# Altium integrated library Infineon_Power_MOSFET.IntLib: 1448 symbols (part 21 of 47)
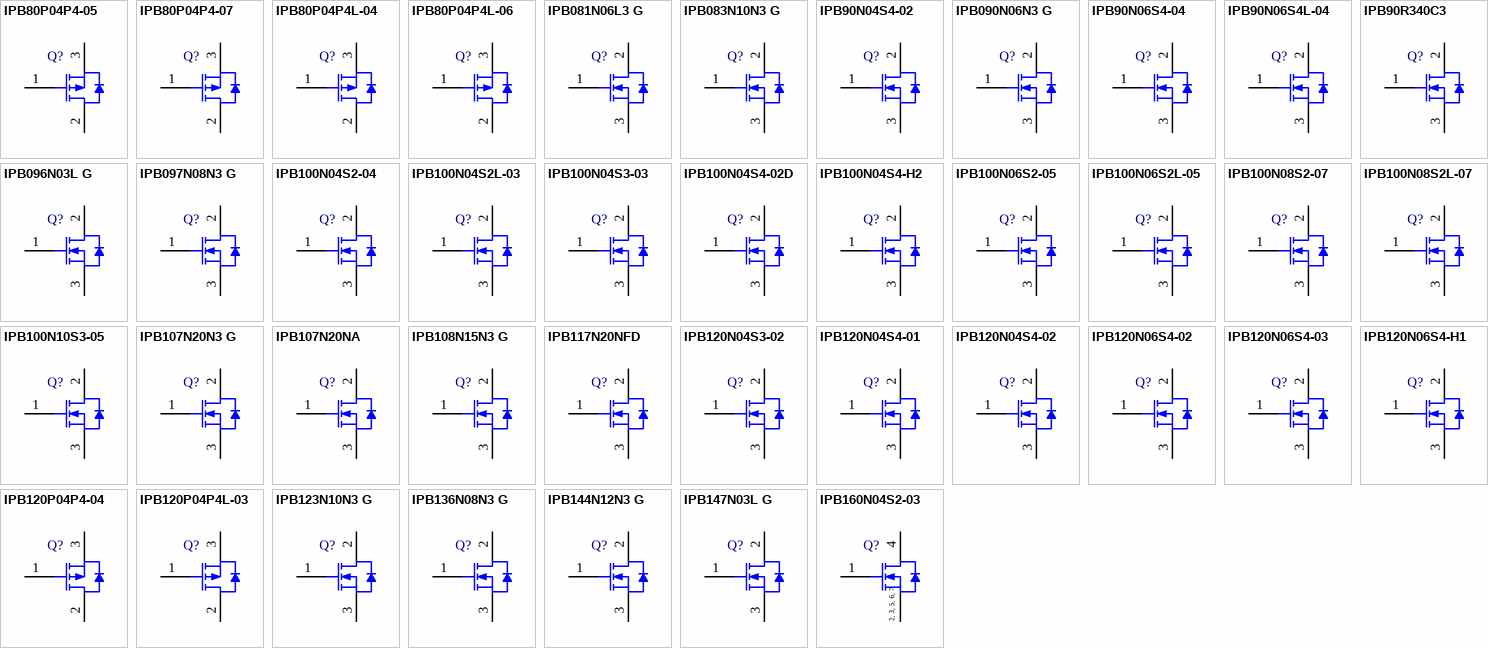
[diagram p57: symbols IPB80P04P4-05 to IPB160N04S2-03]

## IPB147N03L G
designator Q?
N-Channel OptiMOS 3 Power-Transistor, 30 V VDS, 20 A ID, -55 to 175 degC, PG-TO263-3-2, Reel, Green; Manufacturer: Infineon; PartNumber: IPB147N03L G; Green: TRUE; ID (max): 20 A; IDpuls (max): 140 A; Polarity: N; Ptot (max): 31 W; QG: 4.8 nC; RDS (on) (max): 14.7 mOhm; RDS (on) (max) (@4.5V): 21.7 mOhm; Rth: 4.9 K/W; RthJA (max): 62 K/W; VDS (max): 30 V; VGS(th) (max): 2.2 V; VGS(th) (min): 1 V; DatasheetVersion: Rev. 2.0; PackageVersion: Rev. 01, 08/2007; PackageReference: PG-TO263-3-2; PackageDescription: 3-Pin Plastic (Green) Transistor Single Outline Package, 10.1 x 8.98 mm Body, 2.54 mm Pitch; Supplier 1: Digi-Key; Supplier Part Number 1: IPB147N03L G-ND; Halogen-free: TRUE; Packing: Reel; RthJC (max): 4.9 K/W; Mounting Technology: Surface Mount; ComponentLink1Description: Manufacturer URL; ComponentLink1URL: http://www.infineon.com/; ComponentLink2Description: Datasheet; ComponentLink2URL: http://www.infineon.com/dgdl/IPP147N03L_rev2.pdf?folderId=db3a30431441fb5d01148c401f250e27&fileId=db3a30431441fb5d01148d08f1f30e9a; ComponentLink3Description: Package Specification; ComponentLink3URL: http://www.infineon.com/dgdl/SPB80P06P+G_Rev+1.6_.pdf?folderId=db3a304412b407950112b408e8c90004&fileId=db3a304412b407950112b42add964408
footprint INF-PG-TO263-3-2_A_N (DPAK, 3-Leads, Body 10.1x8.98mm, Pitch 2.54mm, IPC Medium Density)
footprint INF-PG-TO263-3-2_A_L (DPAK, 3-Leads, Body 10.1x8.98mm, Pitch 2.54mm, IPC High Density)
footprint INF-PG-TO263-3-2_A_M (DPAK, 3-Leads, Body 10.1x8.98mm, Pitch 2.54mm, IPC Low Density)
pins: 1 GATE, 2 DRAIN, 3 SOURCE

## IPB160N04S2-03
designator Q?
OptiMOS-T Power-Transistor, 40 V VDS, 160 A ID, PG-TO263-7-3, Reel, Green; Manufacturer: Infineon; PartNumber: IPB160N04S2-03; Green: TRUE; ID (max): 160 A; IDpuls (max): 640 A; Ptot (max): 300 W; QG: 123 nC; RDS (on) (max) (@10V): 2.9 mOhm; RthJC (max): 0.5 K/W; VDS (max): 40 V; VGS(th) (max): 4 V; VGS(th) (min): 2.1 V; DatasheetVersion: Rev. 1.0; PackageReference: PG-TO263-7-3; PackageDescription: 7-Pin Plastic (Green) Transistor Single Outline Package, 10 x 9.25 mm Body, 1.27 mm Pitch; Supplier 1: Mouser; Supplier Part Number 1: 726-IPB160N04S203; Supplier 2: Digi-Key; Supplier Part Number 2: IPB160N04S2-03-ND; Halogen-free: TRUE; Packing: Reel; Technology: OptiMOS; Mounting Technology: Surface Mount; ComponentLink1Description: Manufacturer URL; ComponentLink1URL: http://www.infineon.com/; ComponentLink2Description: Datasheet; ComponentLink2URL: http://www.infineon.com/dgdl/IPB160N04S2-03_green.pdf?folderId=db3a304412b407950112b408e8c90004&fileId=db3a304412b407950112b42b97434564&location=en.Products.Automotive_ICs.Automotive_MOSFETs.Single__N-Channel_40V_MOSFETs.DATASHEET.IPB160N04S2-03_green.pdf; ComponentLink3Description: Package Specification; ComponentLink3URL: http://www.infineon.com/cms/packages/SMD_-_Surface_Mounted_Devices/P-PG-TO263/P-TO263-07-02x_-3.html?__locale=en
footprint INF-PG-TO263-7-3_N (DPAK, 7-Leads, Body 10x9.25mm, Pitch 1.27mm, IPC Medium Density)
footprint INF-PG-TO263-7-3_L (DPAK, 7-Leads, Body 10x9.25mm, Pitch 1.27mm, IPC High Density)
footprint INF-PG-TO263-7-3_M (DPAK, 7-Leads, Body 10x9.25mm, Pitch 1.27mm, IPC Low Density)
pins: 1 GATE, 2 SOURCE, 3 SOURCE, 4 DRAIN, 5 SOURCE, 6 SOURCE, 7 SOURCE
text: 2, 3, 5, 6, 7

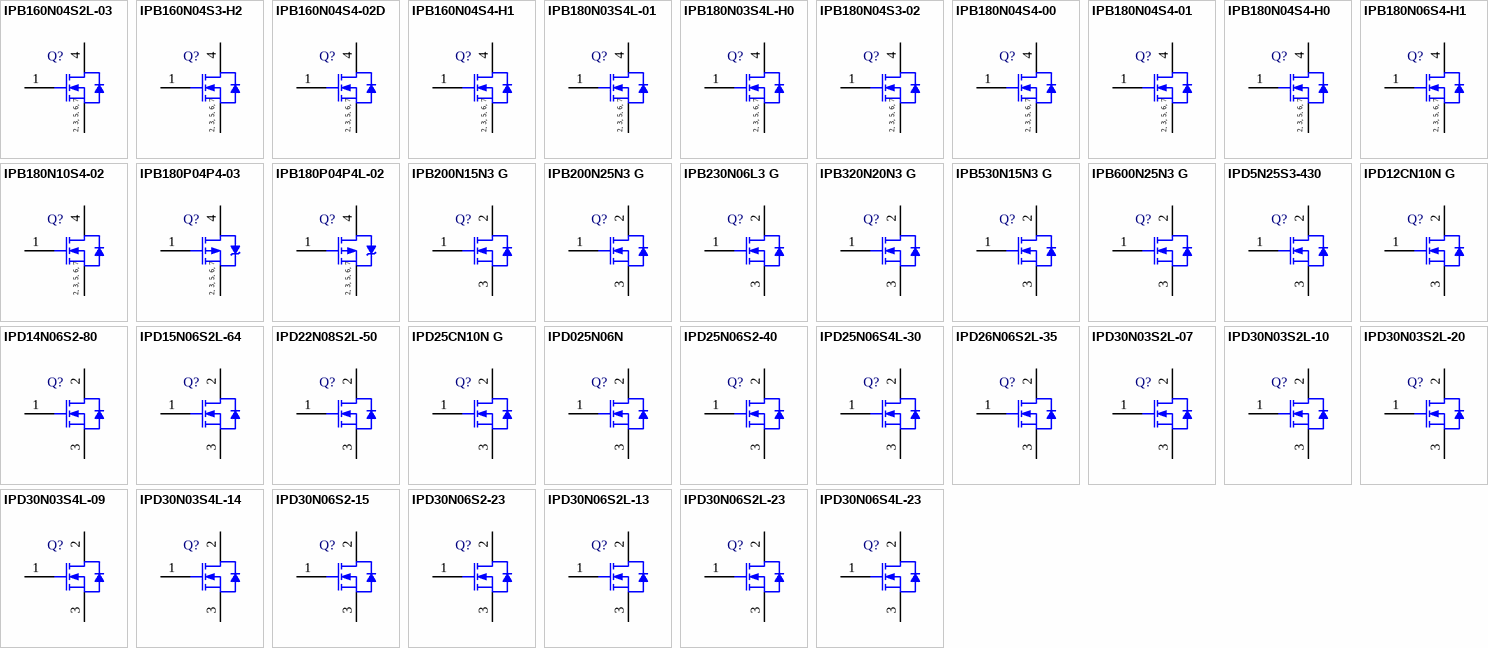
[diagram p16: symbols IPB160N04S2L-03 to IPD30N06S4L-23]

## IPB160N04S2L-03
designator Q?
OptiMOS-T Power-Transistor, 40 V VDS, 160 A ID, PG-TO263-7-3, Reel, Green; Manufacturer: Infineon; PartNumber: IPB160N04S2L-03; Green: TRUE; ID (max): 160 A; IDpuls (max): 640 A; Ptot (max): 300 W; QG: 230 nC; RDS (on) (max) (@10V): 2.7 mOhm; RDS (on) (max) (@4.5V): 3.7 mOhm; RthJC (max): 0.5 K/W; VDS (max): 40 V; VGS(th) (max): 2 V; VGS(th) (min): 1.2 V; DatasheetVersion: Rev. 1.0; PackageReference: PG-TO263-7-3; PackageDescription: 7-Pin Plastic (Green) Transistor Single Outline Package, 10 x 9.25 mm Body, 1.27 mm Pitch; Supplier 1: Mouser; Supplier Part Number 1: 726-IPB160N04S2L03; Supplier 2: Digi-Key; Supplier Part Number 2: IPB160N04S2L-03-ND; Halogen-free: TRUE; Packing: Reel; Technology: OptiMOS; Mounting Technology: Surface Mount; ComponentLink1Description: Manufacturer URL; ComponentLink1URL: http://www.infineon.com/; ComponentLink2Description: Datasheet; ComponentLink2URL: http://www.infineon.com/dgdl/IPB160N04S2L-03_green.pdf?folderId=db3a304412b407950112b408e8c90004&fileId=db3a304412b407950112b42b99f14568&location=en.Products.Automotive_ICs.Automotive_MOSFETs.Single__N-Channel_40V_MOSFETs.DATASHEET.IPB160N04S2L-03_green.pdf; ComponentLink3Description: Package Specification; ComponentLink3URL: http://www.infineon.com/cms/packages/SMD_-_Surface_Mounted_Devices/P-PG-TO263/P-TO263-07-02x_-3.html?__locale=en
footprint INF-PG-TO263-7-3_N (DPAK, 7-Leads, Body 10x9.25mm, Pitch 1.27mm, IPC Medium Density)
footprint INF-PG-TO263-7-3_L (DPAK, 7-Leads, Body 10x9.25mm, Pitch 1.27mm, IPC High Density)
footprint INF-PG-TO263-7-3_M (DPAK, 7-Leads, Body 10x9.25mm, Pitch 1.27mm, IPC Low Density)
pins: 1 GATE, 2 SOURCE, 3 SOURCE, 4 DRAIN, 5 SOURCE, 6 SOURCE, 7 SOURCE
text: 2, 3, 5, 6, 7

## IPB160N04S3-H2
designator Q?
OptiMOS-T Power-Transistor, 40 V VDS, 160 A ID, PG-TO263-7-3, Reel, Green; Manufacturer: Infineon; PartNumber: IPB160N04S3-H2; Green: TRUE; ID (max): 160 A; IDpuls (max): 640 A; Ptot (max): 214 W; QG: 110 nC; RDS (on) (max) (@10V): 2.1 mOhm; RthJC (max): 0.7 K/W; VDS (max): 40 V; VGS(th) (max): 4 V; VGS(th) (min): 2.1 V; DatasheetVersion: Rev. 1.0; PackageReference: PG-TO263-7-3; PackageDescription: 7-Pin Plastic (Green) Transistor Single Outline Package, 10 x 9.25 mm Body, 1.27 mm Pitch; Supplier 1: Mouser; Supplier Part Number 1: 726-IPB160N04S3H2; Supplier 2: Digi-Key; Supplier Part Number 2: IPB160N04S3-H2TR-ND; Supplier 3: Digi-Key; Supplier Part Number 3: IPB160N04S3-H2CT-ND; Supplier 4: Digi-Key; Supplier Part Number 4: IPB160N04S3-H2DKR-ND; Halogen-free: TRUE; Packing: Reel; Technology: OptiMOS-T; Mounting Technology: Surface Mount; ComponentLink1Description: Manufacturer URL; ComponentLink1URL: http://www.infineon.com/; ComponentLink2Description: Datasheet; ComponentLink2URL: http://www.infineon.com/dgdl/IPB160N04S3-H2_DS_1_1.pdf?folderId=db3a304412b407950112b42b75b74520&fileId=db3a304412b407950112b42b8da04548&location=en.Products.Automotive_ICs.Automotive_MOSFETs.Single__N-Channel_40V_MOSFETs.DATASHEET.IPB160N04S3-H2_DS_1_1.pdf; ComponentLink3Description: Package Specification; ComponentLink3URL: http://www.infineon.com/cms/packages/SMD_-_Surface_Mounted_Devices/P-PG-TO263/P-TO263-07-02x_-3.html?__locale=en
footprint INF-PG-TO263-7-3_N (DPAK, 7-Leads, Body 10x9.25mm, Pitch 1.27mm, IPC Medium Density)
footprint INF-PG-TO263-7-3_L (DPAK, 7-Leads, Body 10x9.25mm, Pitch 1.27mm, IPC High Density)
footprint INF-PG-TO263-7-3_M (DPAK, 7-Leads, Body 10x9.25mm, Pitch 1.27mm, IPC Low Density)
pins: 1 GATE, 2 SOURCE, 3 SOURCE, 4 DRAIN, 5 SOURCE, 6 SOURCE, 7 SOURCE
text: 2, 3, 5, 6, 7

## IPB160N04S4-02D
designator Q?
OptiMOS-T2 Power-Transistor, 40 V VDS, 160 A ID, PG-TO263-7-3, Reel, Green; Manufacturer: Infineon; PartNumber: IPB160N04S4-02D; Green: TRUE; ID (max): 160 A; IDpuls (max): 640 A; Ptot (max): 231 mW; QG: 70 nC; RDS (on) (max) (@10V): 1.9 mOhm; RthJC (max): 0.65 K/W; VDS (max): 40 V; VGS(th) (max): 4 V; VGS(th) (min): 2 V; DatasheetVersion: Rev. 1.0; PackageReference: PG-TO263-7-3; PackageDescription: 7-Pin Plastic (Green) Transistor Single Outline Package, 10 x 9.25 mm Body, 1.27 mm Pitch; Halogen-free: TRUE; Packing: Reel; Technology: OptiMOS-T2; Mounting Technology: Surface Mount; ComponentLink1Description: Manufacturer URL; ComponentLink1URL: http://www.infineon.com/; ComponentLink2Description: Datasheet; ComponentLink2URL: http://www.infineon.com/dgdl/IPB160N04S4-02D_DS_1_0.pdf?folderId=db3a304412b407950112b42b75b74520&fileId=db3a304333227b5e013326737da12f0f&location=en.Products.Automotive_ICs.Automotive_MOSFETs.Single__N-Channel_40V_MOSFETs.DATASHEET.IPB160N04S4-02D_DS_1_0.pdf; ComponentLink3Description: Package Specification; ComponentLink3URL: http://www.infineon.com/cms/packages/SMD_-_Surface_Mounted_Devices/P-PG-TO263/P-TO263-07-02x_-3.html?__locale=en
footprint INF-PG-TO263-7-3_N (DPAK, 7-Leads, Body 10x9.25mm, Pitch 1.27mm, IPC Medium Density)
footprint INF-PG-TO263-7-3_L (DPAK, 7-Leads, Body 10x9.25mm, Pitch 1.27mm, IPC High Density)
footprint INF-PG-TO263-7-3_M (DPAK, 7-Leads, Body 10x9.25mm, Pitch 1.27mm, IPC Low Density)
pins: 1 GATE, 2 SOURCE, 3 SOURCE, 4 DRAIN, 5 SOURCE, 6 SOURCE, 7 SOURCE
text: 2, 3, 5, 6, 7

## IPB160N04S4-H1
designator Q?
OptiMOS-T2 Power-Transistor, 40 V VDS, 160 A ID, PG-TO263-7-3, Reel, Green; Manufacturer: Infineon; PartNumber: IPB160N04S4-H1; Green: TRUE; ID (max): 160 A; IDpuls (max): 640 A; Ptot (max): 167 W; QG: 105 nC; RDS (on) (max) (@10V): 1.6 mOhm; RthJC (max): 0.9 K/W; VDS (max): 40 V; VGS(th) (max): 4 V; VGS(th) (min): 2 V; DatasheetVersion: Rev. 1.0; PackageReference: PG-TO263-7-3; PackageDescription: 7-Pin Plastic (Green) Transistor Single Outline Package, 10 x 9.25 mm Body, 1.27 mm Pitch; Supplier 1: Mouser; Supplier Part Number 1: 726-IPB160N04S4-H1; Halogen-free: TRUE; Packing: Reel; Technology: OptiMOS-T2; Mounting Technology: Surface Mount; ComponentLink1Description: Manufacturer URL; ComponentLink1URL: http://www.infineon.com/; ComponentLink2Description: Datasheet; ComponentLink2URL: http://www.infineon.com/dgdl/IPB160N04S4-H1_DS_10.pdf?folderId=db3a304412b407950112b42b75b74520&fileId=db3a304328c6bd5c01291c39839f5d47&location=en.Products.Automotive_ICs.Automotive_MOSFETs.Single__N-Channel_40V_MOSFETs.DATASHEET.IPB160N04S4-H1_DS_10.pdf; ComponentLink3Description: Package Specification; ComponentLink3URL: http://www.infineon.com/cms/packages/SMD_-_Surface_Mounted_Devices/P-PG-TO263/P-TO263-07-02x_-3.html?__locale=en
footprint INF-PG-TO263-7-3_N (DPAK, 7-Leads, Body 10x9.25mm, Pitch 1.27mm, IPC Medium Density)
footprint INF-PG-TO263-7-3_L (DPAK, 7-Leads, Body 10x9.25mm, Pitch 1.27mm, IPC High Density)
footprint INF-PG-TO263-7-3_M (DPAK, 7-Leads, Body 10x9.25mm, Pitch 1.27mm, IPC Low Density)
pins: 1 GATE, 2 SOURCE, 3 SOURCE, 4 DRAIN, 5 SOURCE, 6 SOURCE, 7 SOURCE
text: 2, 3, 5, 6, 7

## IPB180N03S4L-01
designator Q?
OptiMOS-T2 Power-Transistor, 30 V VDS, 180 A ID, PG-TO263-7-3, Reel, Green; Manufacturer: Infineon; PartNumber: IPB180N03S4L-01; Green: TRUE; ID (max): 180 A; IDpuls (max): 720 A; Ptot (max): 188 W; QG: 187 nC; RDS (on) (max) (@10V): 15 mOhm; RDS (on) (max) (@4.5V): 1.4 mOhm; RthJC (max): 0.8 K/W; VDS (max): 30 V; VGS(th) (max): 2.2 V; VGS(th) (min): 1 V; DatasheetVersion: Rev. 1.0; PackageReference: PG-TO263-7-3; PackageDescription: 7-Pin Plastic (Green) Transistor Single Outline Package, 10 x 9.25 mm Body, 1.27 mm Pitch; Supplier 1: Mouser; Supplier Part Number 1: 726-IPB180N03S4L-01; Supplier 2: Digi-Key; Supplier Part Number 2: IPB180N03S4L-01-ND; Halogen-free: TRUE; Packing: Reel; Technology: OptiMOS-T2; Mounting Technology: Surface Mount; ComponentLink1Description: Manufacturer URL; ComponentLink1URL: http://www.infineon.com/; ComponentLink2Description: Datasheet; ComponentLink2URL: http://www.infineon.com/dgdl/IPB180N03S4L-01_DS_1_0.pdf?folderId=db3a304412b407950112b426f7da3b27&fileId=db3a304324fc7f9a0125120e409b199f&location=en.Products.Automotive_ICs.Automotive_MOSFETs.Single__N-Channel_30V_MOSFETs.DATASHEET.IPB180N03S4L-01_DS_1_0.pdf; ComponentLink3Description: Package Specification; ComponentLink3URL: http://www.infineon.com/cms/packages/SMD_-_Surface_Mounted_Devices/P-PG-TO263/P-TO263-07-02x_-3.html?__locale=en
footprint INF-PG-TO263-7-3_N (DPAK, 7-Leads, Body 10x9.25mm, Pitch 1.27mm, IPC Medium Density)
footprint INF-PG-TO263-7-3_L (DPAK, 7-Leads, Body 10x9.25mm, Pitch 1.27mm, IPC High Density)
footprint INF-PG-TO263-7-3_M (DPAK, 7-Leads, Body 10x9.25mm, Pitch 1.27mm, IPC Low Density)
pins: 1 GATE, 2 SOURCE, 3 SOURCE, 4 DRAIN, 5 SOURCE, 6 SOURCE, 7 SOURCE
text: 2, 3, 5, 6, 7

## IPB180N03S4L-H0
designator Q?
OptiMOS-T2 Power-Transistor, 30 V VDS, 180 A ID, PG-TO263-7-3, Reel, Green; Manufacturer: Infineon; PartNumber: IPB180N03S4L-H0; Green: TRUE; ID (max): 180 A; IDpuls (max): 720 A; Ptot (max): 250 W; QG: 230 nC; RDS (on) (max) (@10V): 0.95 mOhm; RDS (on) (max) (@4.5V): 1.3 mOhm; RthJC (max): 0.6 K/W; VDS (max): 30 V; VGS(th) (max): 2.2 V; VGS(th) (min): 1 V; DatasheetVersion: Rev. 1.0; PackageReference: PG-TO263-7-3; PackageDescription: 7-Pin Plastic (Green) Transistor Single Outline Package, 10 x 9.25 mm Body, 1.27 mm Pitch; Supplier 1: Mouser; Supplier Part Number 1: 726-IPB180N03S4L-H0; Supplier 2: Digi-Key; Supplier Part Number 2: IPB180N03S4L-H0-ND; Halogen-free: TRUE; Packing: Reel; Technology: OptiMOS-T2; Mounting Technology: Surface Mount; ComponentLink1Description: Manufacturer URL; ComponentLink1URL: http://www.infineon.com/; ComponentLink2Description: Datasheet; ComponentLink2URL: http://www.infineon.com/dgdl/IPB180N03S4L-H0_DS_1_0.pdf?folderId=db3a304412b407950112b426f7da3b27&fileId=db3a304324fc7f9a01252090cadb4332&location=en.Products.Automotive_ICs.Automotive_MOSFETs.Single__N-Channel_30V_MOSFETs.DATASHEET.IPB180N03S4L-H0_DS_1_0.pdf; ComponentLink3Description: Package Specification; ComponentLink3URL: http://www.infineon.com/cms/packages/SMD_-_Surface_Mounted_Devices/P-PG-TO263/P-TO263-07-02x_-3.html?__locale=en
footprint INF-PG-TO263-7-3_N (DPAK, 7-Leads, Body 10x9.25mm, Pitch 1.27mm, IPC Medium Density)
footprint INF-PG-TO263-7-3_L (DPAK, 7-Leads, Body 10x9.25mm, Pitch 1.27mm, IPC High Density)
footprint INF-PG-TO263-7-3_M (DPAK, 7-Leads, Body 10x9.25mm, Pitch 1.27mm, IPC Low Density)
pins: 1 GATE, 2 SOURCE, 3 SOURCE, 4 DRAIN, 5 SOURCE, 6 SOURCE, 7 SOURCE
text: 2, 3, 5, 6, 7

## IPB180N04S3-02
designator Q?
OptiMOS-T Power-Transistor, 40 V VDS, 180 A ID, PG-TO263-7-3, Reel, Green; Manufacturer: Infineon; PartNumber: IPB180N04S3-02; Green: TRUE; ID (max): 180 A; IDpuls (max): 720 A; Ptot (max): 300 W; QG: 160 nC; RDS (on) (max) (@10V): 1.5 mOhm; RthJC (max): 0.5 K/W; VDS (max): 40 V; VGS(th) (max): 4 V; VGS(th) (min): 2.1 V; DatasheetVersion: Rev. 1.0; PackageReference: PG-TO263-7-3; PackageDescription: 7-Pin Plastic (Green) Transistor Single Outline Package, 10 x 9.25 mm Body, 1.27 mm Pitch; Supplier 1: Mouser; Supplier Part Number 1: 726-IPB180N04S302; Supplier 2: Digi-Key; Supplier Part Number 2: IPB180N04S3-02TR-ND; Supplier 3: Digi-Key; Supplier Part Number 3: IPB180N04S3-02CT-ND; Supplier 4: Digi-Key; Supplier Part Number 4: IPB180N04S3-02DKR-ND; Halogen-free: TRUE; Packing: Reel; Technology: OptiMOS-T; Mounting Technology: Surface Mount; ComponentLink1Description: Manufacturer URL; ComponentLink1URL: http://www.infineon.com/; ComponentLink2Description: Datasheet; ComponentLink2URL: http://www.infineon.com/dgdl/IPB180N04S3-02_DS_1_0.pdf?folderId=db3a304412b407950112b42b75b74520&fileId=db3a304412b407950112b42ba6cf45ab&location=en.Products.Automotive_ICs.Automotive_MOSFETs.Single__N-Channel_40V_MOSFETs.DATASHEET.IPB180N04S3-02_DS_1_0.pdf; ComponentLink3Description: Package Specification; ComponentLink3URL: http://www.infineon.com/cms/packages/SMD_-_Surface_Mounted_Devices/P-PG-TO263/P-TO263-07-02x_-3.html?__locale=en
footprint INF-PG-TO263-7-3_N (DPAK, 7-Leads, Body 10x9.25mm, Pitch 1.27mm, IPC Medium Density)
footprint INF-PG-TO263-7-3_L (DPAK, 7-Leads, Body 10x9.25mm, Pitch 1.27mm, IPC High Density)
footprint INF-PG-TO263-7-3_M (DPAK, 7-Leads, Body 10x9.25mm, Pitch 1.27mm, IPC Low Density)
pins: 1 GATE, 2 SOURCE, 3 SOURCE, 4 DRAIN, 5 SOURCE, 6 SOURCE, 7 SOURCE
text: 2, 3, 5, 6, 7

## IPB180N04S4-00
designator Q?
OptiMOS-T2 Power-Transistor, 40 V VDS, 180 A ID, PG-TO263-7-3, Reel, Green; Manufacturer: Infineon; PartNumber: IPB180N04S4-00; Green: TRUE; ID (max): 180 A; IDpuls (max): 720 A; Ptot (max): 300 W; QG: 220 nC; RDS (on) (max) (@10V): 0.98 mOhm; RthJC (max): 0.5 K/W; VDS (max): 40 V; VGS(th) (max): 4 V; VGS(th) (min): 2 V; DatasheetVersion: Rev. 1.0; PackageReference: PG-TO263-7-3; PackageDescription: 7-Pin Plastic (Green) Transistor Single Outline Package, 10 x 9.25 mm Body, 1.27 mm Pitch; Supplier 1: Mouser; Supplier Part Number 1: 726-IPB180N04S4-00; Supplier 2: Digi-Key; Supplier Part Number 2: IPB180N04S4-00-ND; Halogen-free: TRUE; Packing: Reel; Technology: OptiMOS-T2; Mounting Technology: Surface Mount; ComponentLink1Description: Manufacturer URL; ComponentLink1URL: http://www.infineon.com/; ComponentLink2Description: Datasheet; ComponentLink2URL: http://www.infineon.com/dgdl/IPB180N04S4-00_DS_1_0.pdf?folderId=db3a304412b407950112b42b75b74520&fileId=db3a304328c6bd5c01291c3debd55d57&location=en.Products.Automotive_ICs.Automotive_MOSFETs.Single__N-Channel_40V_MOSFETs.DATASHEET.IPB180N04S4-00_DS_1_0.pdf; ComponentLink3Description: Package Specification; ComponentLink3URL: http://www.infineon.com/cms/packages/SMD_-_Surface_Mounted_Devices/P-PG-TO263/P-TO263-07-02x_-3.html?__locale=en
footprint INF-PG-TO263-7-3_N (DPAK, 7-Leads, Body 10x9.25mm, Pitch 1.27mm, IPC Medium Density)
footprint INF-PG-TO263-7-3_L (DPAK, 7-Leads, Body 10x9.25mm, Pitch 1.27mm, IPC High Density)
footprint INF-PG-TO263-7-3_M (DPAK, 7-Leads, Body 10x9.25mm, Pitch 1.27mm, IPC Low Density)
pins: 1 GATE, 2 SOURCE, 3 SOURCE, 4 DRAIN, 5 SOURCE, 6 SOURCE, 7 SOURCE
text: 2, 3, 5, 6, 7

## IPB180N04S4-01
designator Q?
OptiMOS-T2 Power-Transistor, 40 V VDS, 180 A ID, PG-TO263-7-3, Reel, Green; Manufacturer: Infineon; PartNumber: IPB180N04S4-01; Green: TRUE; ID (max): 180 A; IDpuls (max): 720 A; Ptot (max): 188 W; QG: 135 nC; RDS (on) (max) (@10V): 1.3 mOhm; RthJC (max): 0.8 K/W; VDS (max): 40 V; VGS(th) (max): 4 V; VGS(th) (min): 2 V; DatasheetVersion: Rev. 1.0; PackageReference: PG-TO263-7-3; PackageDescription: 7-Pin Plastic (Green) Transistor Single Outline Package, 10 x 9.25 mm Body, 1.27 mm Pitch; Supplier 1: Mouser; Supplier Part Number 1: 726-IPB180N04S4-01; Supplier 2: Digi-Key; Supplier Part Number 2: IPB180N04S4-01-ND; Halogen-free: TRUE; Packing: Reel; Technology: OptiMOS-T2; Mounting Technology: Surface Mount; ComponentLink1Description: Manufacturer URL; ComponentLink1URL: http://www.infineon.com/; ComponentLink2Description: Datasheet; ComponentLink2URL: http://www.infineon.com/dgdl/IPB180N04S4-01_DS_1_0.pdf?folderId=db3a304412b407950112b42b75b74520&fileId=db3a304328c6bd5c01291c432c5d5d67&location=en.Products.Automotive_ICs.Automotive_MOSFETs.Single__N-Channel_40V_MOSFETs.DATASHEET.IPB180N04S4-01_DS_1_0.pdf; ComponentLink3Description: Package Specification; ComponentLink3URL: http://www.infineon.com/cms/packages/SMD_-_Surface_Mounted_Devices/P-PG-TO263/P-TO263-07-02x_-3.html?__locale=en
footprint INF-PG-TO263-7-3_N (DPAK, 7-Leads, Body 10x9.25mm, Pitch 1.27mm, IPC Medium Density)
footprint INF-PG-TO263-7-3_L (DPAK, 7-Leads, Body 10x9.25mm, Pitch 1.27mm, IPC High Density)
footprint INF-PG-TO263-7-3_M (DPAK, 7-Leads, Body 10x9.25mm, Pitch 1.27mm, IPC Low Density)
pins: 1 GATE, 2 SOURCE, 3 SOURCE, 4 DRAIN, 5 SOURCE, 6 SOURCE, 7 SOURCE
text: 2, 3, 5, 6, 7

## IPB180N04S4-H0
designator Q?
OptiMOS-T2 Power-Transistor, 40 V VDS, 180 A ID, PG-TO263-7-3, Reel, Green; Manufacturer: Infineon; PartNumber: IPB180N04S4-H0; Green: TRUE; ID (max): 180 A; IDpuls (max): 720 A; Ptot (max): 250 W; QG: 173 nC; RDS (on) (max) (@10V): 1.1 mOhm; RthJC (max): 0.6 K/W; VDS (max): 40 V; VGS(th) (max): 4 V; VGS(th) (min): 2 V; DatasheetVersion: Rev. 1.0; PackageReference: PG-TO263-7-3; PackageDescription: 7-Pin Plastic (Green) Transistor Single Outline Package, 10 x 9.25 mm Body, 1.27 mm Pitch; Supplier 1: Mouser; Supplier Part Number 1: 726-IPB180N04S4-H0; Supplier 2: Digi-Key; Supplier Part Number 2: IPB180N04S4-H0-ND; Halogen-free: TRUE; Packing: Reel; Technology: OptiMOS-T2; Mounting Technology: Surface Mount; ComponentLink1Description: Manufacturer URL; ComponentLink1URL: http://www.infineon.com/; ComponentLink2Description: Datasheet; ComponentLink2URL: http://www.infineon.com/dgdl/IPB180N04S4-H0_DS_1_0.pdf?folderId=db3a304412b407950112b42b75b74520&fileId=db3a304328c6bd5c01291c4975375d77&location=en.Products.Automotive_ICs.Automotive_MOSFETs.Single__N-Channel_40V_MOSFETs.DATASHEET.IPB180N04S4-H0_DS_1_0.pdf; ComponentLink3Description: Package Specification; ComponentLink3URL: http://www.infineon.com/cms/packages/SMD_-_Surface_Mounted_Devices/P-PG-TO263/P-TO263-07-02x_-3.html?__locale=en
footprint INF-PG-TO263-7-3_N (DPAK, 7-Leads, Body 10x9.25mm, Pitch 1.27mm, IPC Medium Density)
footprint INF-PG-TO263-7-3_L (DPAK, 7-Leads, Body 10x9.25mm, Pitch 1.27mm, IPC High Density)
footprint INF-PG-TO263-7-3_M (DPAK, 7-Leads, Body 10x9.25mm, Pitch 1.27mm, IPC Low Density)
pins: 1 GATE, 2 SOURCE, 3 SOURCE, 4 DRAIN, 5 SOURCE, 6 SOURCE, 7 SOURCE
text: 2, 3, 5, 6, 7

## IPB180N06S4-H1
designator Q?
OptiMOS-T2 Power-Transistor, 60 V VDS, 180 A ID, PG-TO263-7-3, Reel, Green; Manufacturer: Infineon; PartNumber: IPB180N06S4-H1; Green: TRUE; ID (max): 180 A; IDpuls (max): 720 A; Ptot (max): 250 W; QG: 208 nC; RDS (on) (max) (@10V): 1.7 mOhm; RthJC (max): 0.6 K/W; VDS (max): 60 V; VGS(th) (max): 4 V; VGS(th) (min): 2 V; DatasheetVersion: Rev. 1.0; PackageReference: PG-TO263-7-3; PackageDescription: 7-Pin Plastic (Green) Transistor Single Outline Package, 10 x 9.25 mm Body, 1.27 mm Pitch; Supplier 1: Mouser; Supplier Part Number 1: 726-IPB180N06S4-H1; Supplier 2: Digi-Key; Supplier Part Number 2: IPB180N06S4-H1-ND; Halogen-free: TRUE; Packing: Reel; Technology: OptiMOS-T2; Mounting Technology: Surface Mount; ComponentLink1Description: Manufacturer URL; ComponentLink1URL: http://www.infineon.com/; ComponentLink2Description: Datasheet; ComponentLink2URL: http://www.infineon.com/dgdl/IPB180N06S4-H1_DS_10.pdf?folderId=db3a30431ff9881501203cca7672178b&fileId=db3a30431ff9881501203ccc9314178e&location=en.Products.Automotive_ICs.Automotive_MOSFETs.Single__N-Channel_60V_MOSFETs.DATASHEET.IPB180N06S4-H1_DS_10.pdf; ComponentLink3Description: Package Specification; ComponentLink3URL: http://www.infineon.com/cms/packages/SMD_-_Surface_Mounted_Devices/P-PG-TO263/P-TO263-07-02x_-3.html?__locale=en
footprint INF-PG-TO263-7-3_N (DPAK, 7-Leads, Body 10x9.25mm, Pitch 1.27mm, IPC Medium Density)
footprint INF-PG-TO263-7-3_L (DPAK, 7-Leads, Body 10x9.25mm, Pitch 1.27mm, IPC High Density)
footprint INF-PG-TO263-7-3_M (DPAK, 7-Leads, Body 10x9.25mm, Pitch 1.27mm, IPC Low Density)
pins: 1 GATE, 2 SOURCE, 3 SOURCE, 4 DRAIN, 5 SOURCE, 6 SOURCE, 7 SOURCE
text: 2, 3, 5, 6, 7

## IPB180N10S4-02
designator Q?
OptiMOS-T2 Power-Transistor, 100 V VDS, 180 A ID, PG-TO263-7-3, Reel, Green; Manufacturer: Infineon; PartNumber: IPB180N10S4-02; Green: TRUE; ID (max): 180 A; IDpuls (max): 720 A; Ptot (max): 300 W; QG: 156 nC; RDS (on) (max) (@10V): 2.5 mOhm; RthJC (max): 0.5 K/W; VDS (max): 100 V; VGS(th) (max): 3.5 V; VGS(th) (min): 2 V; DatasheetVersion: Rev. 1.0; PackageReference: PG-TO263-7-3; PackageDescription: 7-Pin Plastic (Green) Transistor Single Outline Package, 10 x 9.25 mm Body, 1.27 mm Pitch; Supplier 1: Mouser; Supplier Part Number 1: N/A; Halogen-free: TRUE; Packing: Reel; Technology: OptiMOS-T2; Mounting Technology: Surface Mount; ComponentLink1Description: Manufacturer URL; ComponentLink1URL: http://www.infineon.com/; ComponentLink2Description: Datasheet; ComponentLink2URL: http://www.infineon.com/dgdl/IPB180N10S4-02_DS_1_0.pdf?folderId=db3a304412b407950112b42a6a0a4339&fileId=db3a30433d1d0bbe013d2129cf8a2f88&location=en.Products.Automotive_ICs.Automotive_MOSFETs.Single__N-Channel_100V_MOSFETs.DATASHEET.IPB180N10S4-02_DS_1_0.pdf; ComponentLink3Description: Package Specification; ComponentLink3URL: http://www.infineon.com/cms/packages/SMD_-_Surface_Mounted_Devices/P-PG-TO263/P-TO263-07-02x_-3.html?__locale=en
footprint INF-PG-TO263-7-3_N (DPAK, 7-Leads, Body 10x9.25mm, Pitch 1.27mm, IPC Medium Density)
footprint INF-PG-TO263-7-3_L (DPAK, 7-Leads, Body 10x9.25mm, Pitch 1.27mm, IPC High Density)
footprint INF-PG-TO263-7-3_M (DPAK, 7-Leads, Body 10x9.25mm, Pitch 1.27mm, IPC Low Density)
pins: 1 GATE, 2 SOURCE, 3 SOURCE, 4 DRAIN, 5 SOURCE, 6 SOURCE, 7 SOURCE
text: 2, 3, 5, 6, 7

## IPB180P04P4-03
designator Q?
OptiMOS-P2 Power-Transistor, -40 V VDS, -180 A ID, PG-TO263-7-3, Reel, Green; Manufacturer: Infineon; PartNumber: IPB180P04P4-03; Green: TRUE; ID (max): -180 A; IDpuls (max): -720 A; Ptot (max): 150 W; QG: 190 nC; RDS (on) (max) (@10V): 2.8 mOhm; RthJC (max): 1 K/W; VDS (max): -40 V; VGS(th) (max): -4 V; VGS(th) (min): -2 V; DatasheetVersion: Rev. 1.0; PackageReference: PG-TO263-7-3; PackageDescription: 7-Pin Plastic (Green) Transistor Single Outline Package, 10 x 9.25 mm Body, 1.27 mm Pitch; Supplier 1: Mouser; Supplier Part Number 1: 726-IPB180P04P4-03; Halogen-free: TRUE; Packing: Reel; Technology: OptiMOS-P2; Mounting Technology: Surface Mount; ComponentLink1Description: Manufacturer URL; ComponentLink1URL: http://www.infineon.com/; ComponentLink2Description: Datasheet; ComponentLink2URL: http://www.infineon.com/dgdl/IPB180P04P4-03_DS_10.pdf?folderId=db3a304412b407950112b42b75b74520&fileId=db3a30432f69f146012f78472a2a2e4e&location=en.Products.Automotive_ICs.Automotive_MOSFETs.Single__P-Channel_40V_MOSFETs.DATASHEET.IPB180P04P4-03_DS_10.pdf; ComponentLink3Description: Package Specification; ComponentLink3URL: http://www.infineon.com/cms/packages/SMD_-_Surface_Mounted_Devices/P-PG-TO263/P-TO263-07-02x_-3.html?__locale=en
footprint INF-PG-TO263-7-3_N (DPAK, 7-Leads, Body 10x9.25mm, Pitch 1.27mm, IPC Medium Density)
footprint INF-PG-TO263-7-3_L (DPAK, 7-Leads, Body 10x9.25mm, Pitch 1.27mm, IPC High Density)
footprint INF-PG-TO263-7-3_M (DPAK, 7-Leads, Body 10x9.25mm, Pitch 1.27mm, IPC Low Density)
pins: 1 GATE, 2 SOURCE, 3 SOURCE, 4 DRAIN, 5 SOURCE, 6 SOURCE, 7 SOURCE
text: 2, 3, 5, 6, 7

## IPB180P04P4L-02
designator Q?
OptiMOS-P2 Power-Transistor, -40 V VDS, -180 A ID, PG-TO263-7-3, Reel, Green; Manufacturer: Infineon; PartNumber: IPB180P04P4L-02; Green: TRUE; ID (max): -180 A; IDpuls (max): -720 A; Ptot (max): 150 W; QG: 220 nC; RDS (on) (max) (@10V): 2.4 mOhm; RDS (on) (max) (@4.5V): 3.9 mOhm; RthJC (max): 1 K/W; VDS (max): -40 V; VGS(th) (max): -2.2 V; VGS(th) (min): -1.2 V; DatasheetVersion: Rev. 1.3; PackageReference: PG-TO263-7-3; PackageDescription: 7-Pin Plastic (Green) Transistor Single Outline Package, 10 x 9.25 mm Body, 1.27 mm Pitch; Supplier 1: Mouser; Supplier Part Number 1: 726-IPB180P04P4L-02; Halogen-free: TRUE; Packing: Reel; Technology: OptiMOS-P2; Mounting Technology: Surface Mount; ComponentLink1Description: Manufacturer URL; ComponentLink1URL: http://www.infineon.com/; ComponentLink2Description: Datasheet; ComponentLink2URL: http://www.infineon.com/dgdl/IPB180P04P4L-02_DS_13.pdf?folderId=db3a304412b407950112b42b75b74520&fileId=db3a30432f69f146012f7845736e2e49&location=en.Products.Automotive_ICs.Automotive_MOSFETs.Single__P-Channel_40V_MOSFETs.DATASHEET.IPB180P04P4L-02_DS_13.pdf; ComponentLink3Description: Package Specification; ComponentLink3URL: http://www.infineon.com/cms/packages/SMD_-_Surface_Mounted_Devices/P-PG-TO263/P-TO263-07-02x_-3.html?__locale=en
footprint INF-PG-TO263-7-3_N (DPAK, 7-Leads, Body 10x9.25mm, Pitch 1.27mm, IPC Medium Density)
footprint INF-PG-TO263-7-3_L (DPAK, 7-Leads, Body 10x9.25mm, Pitch 1.27mm, IPC High Density)
footprint INF-PG-TO263-7-3_M (DPAK, 7-Leads, Body 10x9.25mm, Pitch 1.27mm, IPC Low Density)
pins: 1 GATE, 2 SOURCE, 3 SOURCE, 4 DRAIN, 5 SOURCE, 6 SOURCE, 7 SOURCE
text: 2, 3, 5, 6, 7

## IPB200N15N3 G
designator Q?
N-Channel OptiMOS 3 Power-Transistor, 150 V VDS, 50 A ID, -55 to 175 degC, PG-TO263-3-1, Reel, Green; Manufacturer: Infineon; PartNumber: IPB200N15N3 G; Green: TRUE; ID (max): 50 A; IDpuls (max): 200 A; Polarity: N; Ptot (max): 150 W; QG: 23 nC; RDS (on) (max): 20 mOhm; Rth: 1 K/W; RthJA (max): 75 K/W; VDS (max): 150 V; VGS(th) (max): 4 V; VGS(th) (min): 2 V; DatasheetVersion: Rev. 2.05; PackageVersion: Jan-10; PackageReference: PG-TO263-3-1; PackageDescription: 3-Pin Plastic (Green) Transistor Single Outline Package, 10 x 9.25 mm Body, 2.54 mm Pitch; Supplier 1: Mouser; Supplier Part Number 1: 726-IPB200N15N3G; Supplier 2: Digi-Key; Supplier Part Number 2: IPB200N15N3 GTR-ND; Supplier 3: Digi-Key; Supplier Part Number 3: IPB200N15N3 GCT-ND; Supplier 4: Digi-Key; Supplier Part Number 4: IPB200N15N3 GDKR-ND; Halogen-free: TRUE; Packing: Reel; RthJC (max): 1 K/W; Mounting Technology: Surface Mount; ComponentLink1Description: Manufacturer URL; ComponentLink1URL: http://www.infineon.com/; ComponentLink2Description: Datasheet; ComponentLink2URL: http://www.infineon.com/dgdl/IPD200N15N3_Rev25.pdf?folderId=db3a304313b8b5a60113cee7c66a02d6&fileId=db3a304319c6f18c0119cd1cc23279be; ComponentLink3Description: Package Specification; ComponentLink3URL: http://www.infineon.com/dgdl/TLE42744_DS_11.pdf?folderId=db3a304318f3fe290118f5a433570040&fileId=db3a304327b897500128012ccafe37d2&sId=db3a30443d67b5ca013d83f7c0ea327b
footprint INF-PG-TO263-3-1_N (DPAK, 3-Leads, Body 10x9.25mm, Pitch 2.54mm, IPC Medium Density)
footprint INF-PG-TO263-3-1_L (DPAK, 3-Leads, Body 10x9.25mm, Pitch 2.54mm, IPC High Density)
footprint INF-PG-TO263-3-1_M (DPAK, 3-Leads, Body 10x9.25mm, Pitch 2.54mm, IPC Low Density)
pins: 1 GATE, 2 DRAIN, 3 SOURCE

## IPB200N25N3 G
designator Q?
N-Channel OptiMOS 3 Power-Transistor, 250 V VDS, 64 A ID, -55 to 175 degC, PG-TO-263-3-2, Reel, Green; Manufacturer: Infineon; PartNumber: IPB200N25N3 G; Green: TRUE; ID (max): 64 A; IDpuls (max): 256 A; Polarity: N; Ptot (max): 300 W; QG: 64 nC; RDS (on) (max): 20 mOhm; Rth: 0.5 K/W; RthJA (max): 62 K/W; VDS (max): 250 V; VGS(th) (max): 4 V; VGS(th) (min): 2 V; DatasheetVersion: Rev. 2.4; PackageVersion: Rev. 01, 08/2007; PackageReference: PG-TO-263-3-2; PackageDescription: 3-Pin Plastic (Green) Transistor Single Outline Package, 10.06 x 8.98 mm Body, 2.54 mm Pitch; Supplier 1: Mouser; Supplier Part Number 1: 726-IPB200N25N3GXT; Supplier 2: Newark; Supplier Part Number 2: 79X1433; Supplier 3: Farnell; Supplier Part Number 3: 2432726; Supplier 4: Digi-Key; Supplier Part Number 4: IPB200N25N3 GTR-ND; Supplier 5: Digi-Key; Supplier Part Number 5: IPB200N25N3 GCT-ND; Supplier 6: Digi-Key; Supplier Part Number 6: IPB200N25N3 GDKR-ND; Halogen-free: TRUE; Packing: Reel; RthJC (max): 0.5 K/W; Mounting Technology: Surface Mount; ComponentLink1Description: Manufacturer URL; ComponentLink1URL: http://www.infineon.com/; ComponentLink2Description: Datasheet; ComponentLink2URL: http://www.infineon.com/dgdl/IPP_B_I_200N25N3+G+Rev2.4.pdf?folderId=db3a3043163797a6011637d4bae7003b&fileId=db3a3043243b5f17012496b87e9f1971; ComponentLink3Description: Package Specification; ComponentLink3URL: http://www.infineon.com/dgdl/IPB026N06N_Rev2.2.pdf?folderId=db3a304313b8b5a60113cee8763b02d7&fileId=db3a3043372d5cc8013754c7b2a74f7c
footprint INF-PG-TO-263-3-2_A_N (DPAK, 3-Leads, Body 10.06x8.98mm, Pitch 2.54mm, IPC Medium Density)
footprint INF-PG-TO-263-3-2_A_L (DPAK, 3-Leads, Body 10.06x8.98mm, Pitch 2.54mm, IPC High Density)
footprint INF-PG-TO-263-3-2_A_M (DPAK, 3-Leads, Body 10.06x8.98mm, Pitch 2.54mm, IPC Low Density)
pins: 1 GATE, 2 DRAIN, 3 SOURCE

## IPB230N06L3 G
designator Q?
OptiMOS 3 Power-Transistor, 60 V VDS, PG-TO-263-3-2, Reel, Green; Manufacturer: Infineon; PartNumber: IPB230N06L3 G; Green: TRUE; Polarity: N; RDS (on) (max): 23 mOhm; VDS (max): 60 V; DatasheetVersion: Rev. 2.2; PackageVersion: Rev. 01, 08/2007; PackageReference: PG-TO-263-3-2; PackageDescription: 3-Pin Plastic (Green) Transistor Single Outline Package, 10.06 x 8.98 mm Body, 2.54 mm Pitch; Supplier 1: Mouser; Supplier Part Number 1: 726-IPB230N06L3G; Supplier 2: Digi-Key; Supplier Part Number 2: IPB230N06L3 GTR-ND; Supplier 3: Digi-Key; Supplier Part Number 3: IPB230N06L3 GCT-ND; Supplier 4: Digi-Key; Supplier Part Number 4: IPB230N06L3 GDKR-ND; Halogen-free: TRUE; Mounting Technology: Surface Mount; ComponentLink1Description: Manufacturer URL; ComponentLink1URL: http://www.infineon.com/; ComponentLink2Description: Datasheet; ComponentLink2URL: http://www.infineon.com/dgdl/IPP_B230N06L3_Rev2.2_.pdf?folderId=db3a30431441fb5d01148ca9f1be0e77&fileId=db3a30431ddc9372011e2aab4a564d14; ComponentLink3Description: Package Specification; ComponentLink3URL: http://www.infineon.com/dgdl/IPB026N06N_Rev2.2.pdf?folderId=db3a304313b8b5a60113cee8763b02d7&fileId=db3a3043372d5cc8013754c7b2a74f7c
footprint INF-PG-TO-263-3-2_A_N (DPAK, 3-Leads, Body 10.06x8.98mm, Pitch 2.54mm, IPC Medium Density)
footprint INF-PG-TO-263-3-2_A_L (DPAK, 3-Leads, Body 10.06x8.98mm, Pitch 2.54mm, IPC High Density)
footprint INF-PG-TO-263-3-2_A_M (DPAK, 3-Leads, Body 10.06x8.98mm, Pitch 2.54mm, IPC Low Density)
pins: 1 GATE, 2 DRAIN, 3 SOURCE

## IPB320N20N3 G
designator Q?
N-Channel OptiMOS 3 Power-Transistor, 200 V VDS, 34 A ID, -55 to 175 degC, PG-TO-263-3-2, Reel, Green; Manufacturer: Infineon; PartNumber: IPB320N20N3 G; Green: TRUE; ID (max): 34 A; IDpuls (max): 136 A; Polarity: N; Ptot (max): 136 W; QG: 22 nC; RDS (on) (max): 32 mOhm; Rth: 1.1 K/W; RthJA (max): 62 K/W; VDS (max): 200 V; VGS(th) (max): 4 V; VGS(th) (min): 2 V; DatasheetVersion: Rev. 2.3; PackageVersion: Rev. 01, 08/2007; PackageReference: PG-TO-263-3-2; PackageDescription: 3-Pin Plastic (Green) Transistor Single Outline Package, 10.06 x 8.98 mm Body, 2.54 mm Pitch; Supplier 1: Mouser; Supplier Part Number 1: 726-IPB320N20N3GXT; Supplier 2: Newark; Supplier Part Number 2: 47W3467; Supplier 3: Farnell; Supplier Part Number 3: 2212854; Supplier 4: Digi-Key; Supplier Part Number 4: IPB320N20N3 GTR-ND; Supplier 5: Digi-Key; Supplier Part Number 5: IPB320N20N3 GCT-ND; Supplier 6: Digi-Key; Supplier Part Number 6: IPB320N20N3 GDKR-ND; Halogen-free: TRUE; Packing: Reel; RthJC (max): 1.1 K/W; Mounting Technology: Surface Mount; ComponentLink1Description: Manufacturer URL; ComponentLink1URL: http://www.infineon.com/; ComponentLink2Description: Datasheet; ComponentLink2URL: http://www.infineon.com/dgdl/IPP_B_I_320N20N3+G+Rev2.3.pdf?folderId=db3a3043163797a6011637d4bae7003b&fileId=db3a3043243b5f170124967064ba184a; ComponentLink3Description: Package Specification; ComponentLink3URL: http://www.infineon.com/dgdl/IPB026N06N_Rev2.2.pdf?folderId=db3a304313b8b5a60113cee8763b02d7&fileId=db3a3043372d5cc8013754c7b2a74f7c
footprint INF-PG-TO-263-3-2_A_N (DPAK, 3-Leads, Body 10.06x8.98mm, Pitch 2.54mm, IPC Medium Density)
footprint INF-PG-TO-263-3-2_A_L (DPAK, 3-Leads, Body 10.06x8.98mm, Pitch 2.54mm, IPC High Density)
footprint INF-PG-TO-263-3-2_A_M (DPAK, 3-Leads, Body 10.06x8.98mm, Pitch 2.54mm, IPC Low Density)
pins: 1 GATE, 2 DRAIN, 3 SOURCE

## IPB530N15N3 G
designator Q?
N-Channel OptiMOS 3 Power-Transistor, 150 V VDS, 21 A ID, -55 to 175 degC, PG-TO-263-3-2, Reel, Green; Manufacturer: Infineon; PartNumber: IPB530N15N3 G; Green: TRUE; ID (max): 21 A; IDpuls (max): 84 A; Polarity: N; Ptot (max): 68 W; QG: 8.7 nC; RDS (on) (max): 53 mOhm; Rth: 2.2 K/W; RthJA (max): 62 K/W; VDS (max): 150 V; VGS(th) (max): 4 V; VGS(th) (min): 2 V; DatasheetVersion: Rev. 2.5; PackageVersion: Rev. 01, 08/2007; PackageReference: PG-TO-263-3-2; PackageDescription: 3-Pin Plastic (Green) Transistor Single Outline Package, 10.06 x 8.98 mm Body, 2.54 mm Pitch; Supplier 1: Mouser; Supplier Part Number 1: 726-IPB530N15N3G; Supplier 2: Digi-Key; Supplier Part Number 2: IPB530N15N3 GTR-ND; Supplier 3: Digi-Key; Supplier Part Number 3: IPB530N15N3 GCT-ND; Supplier 4: Digi-Key; Supplier Part Number 4: IPB530N15N3 GDKR-ND; Halogen-free: TRUE; Packing: Reel; RthJC (max): 2.2 K/W; Mounting Technology: Surface Mount; ComponentLink1Description: Manufacturer URL; ComponentLink1URL: http://www.infineon.com/; ComponentLink2Description: Datasheet; ComponentLink2URL: http://www.infineon.com/dgdl/IPD530N15N3_Rev2.5.pdf?folderId=db3a304326623792012669f6bee2224b&fileId=db3a30432662379201266a1f6dd2227c; ComponentLink3Description: Package Specification; ComponentLink3URL: http://www.infineon.com/dgdl/IPB026N06N_Rev2.2.pdf?folderId=db3a304313b8b5a60113cee8763b02d7&fileId=db3a3043372d5cc8013754c7b2a74f7c
footprint INF-PG-TO-263-3-2_A_N (DPAK, 3-Leads, Body 10.06x8.98mm, Pitch 2.54mm, IPC Medium Density)
footprint INF-PG-TO-263-3-2_A_L (DPAK, 3-Leads, Body 10.06x8.98mm, Pitch 2.54mm, IPC High Density)
footprint INF-PG-TO-263-3-2_A_M (DPAK, 3-Leads, Body 10.06x8.98mm, Pitch 2.54mm, IPC Low Density)
pins: 1 GATE, 2 DRAIN, 3 SOURCE

## IPB600N25N3 G
designator Q?
N-Channel OptiMOS 3 Power-Transistor, 250 V VDS, 25 A ID, -55 to 175 degC, PG-TO-263-3-2, Reel, Green; Manufacturer: Infineon; PartNumber: IPB600N25N3 G; Green: TRUE; ID (max): 25 A; IDpuls (max): 100 A; Polarity: N; Ptot (max): 136 W; QG: 22 nC; RDS (on) (max): 60 mOhm; Rth: 1.1 K/W; RthJA (max): 62 K/W; VDS (max): 250 V; VGS(th) (max): 4 V; VGS(th) (min): 2 V; DatasheetVersion: Rev. 2.3; PackageVersion: Rev. 01, 08/2007; PackageReference: PG-TO-263-3-2; PackageDescription: 3-Pin Plastic (Green) Transistor Single Outline Package, 10.06 x 8.98 mm Body, 2.54 mm Pitch; Supplier 1: Mouser; Supplier Part Number 1: 726-IPB600N25N3GXT; Supplier 2: Digi-Key; Supplier Part Number 2: IPB600N25N3 GTR-ND; Supplier 3: Digi-Key; Supplier Part Number 3: IPB600N25N3 GCT-ND; Supplier 4: Digi-Key; Supplier Part Number 4: IPB600N25N3 GDKR-ND; Halogen-free: TRUE; Packing: Reel; RthJC (max): 1.1 K/W; Mounting Technology: Surface Mount; ComponentLink1Description: Manufacturer URL; ComponentLink1URL: http://www.infineon.com/; ComponentLink2Description: Datasheet; ComponentLink2URL: http://www.infineon.com/dgdl/IPP_B_600N25N3+G+Rev2.3.pdf?folderId=db3a3043163797a6011637d4bae7003b&fileId=db3a3043243b5f17012496c9548d199c; ComponentLink3Description: Package Specification; ComponentLink3URL: http://www.infineon.com/dgdl/IPB026N06N_Rev2.2.pdf?folderId=db3a304313b8b5a60113cee8763b02d7&fileId=db3a3043372d5cc8013754c7b2a74f7c
footprint INF-PG-TO-263-3-2_A_N (DPAK, 3-Leads, Body 10.06x8.98mm, Pitch 2.54mm, IPC Medium Density)
footprint INF-PG-TO-263-3-2_A_L (DPAK, 3-Leads, Body 10.06x8.98mm, Pitch 2.54mm, IPC High Density)
footprint INF-PG-TO-263-3-2_A_M (DPAK, 3-Leads, Body 10.06x8.98mm, Pitch 2.54mm, IPC Low Density)
pins: 1 GATE, 2 DRAIN, 3 SOURCE

## IPD5N25S3-430
designator Q?
OptiMOS-T Power-Transistor, 250 V VDS, 5 A ID, PG-TO252-3-313, Green; Manufacturer: Infineon; PartNumber: IPD5N25S3-430; Green: FALSE; ID (max): 5 A; IDpuls (max): 20 A; Ptot (max): 41 W; QG: 4.7 nC; RDS (on) (max) (@10V): 430 mOhm; RthJC (max): 3.7 K/W; VDS (max): 250 V; VGS(th) (max): 4 V; VGS(th) (min): 2 V; DatasheetVersion: Rev. 1.0; PackageVersion: Oct-10; PackageReference: PG-TO252-3-313; PackageDescription: 3-Pin Plastic (Green) Transistor Single Outline Package, 6.5 x 6.12 mm Body, 2.28 mm Pitch; Supplier 1: Mouser; Supplier Part Number 1: 726-IPD5N25S3-430; Halogen-free: FALSE; Technology: OptiMOS-T; Mounting Technology: Surface Mount; ComponentLink1Description: Manufacturer URL; ComponentLink1URL: http://www.infineon.com/; ComponentLink2Description: Datasheet; ComponentLink2URL: http://www.infineon.com/dgdl/IPD5N25S3-430_DS_10.pdf?folderId=db3a30433b92f0e8013b9377b6270147&fileId=db3a30433b92f0e8013b9379d03b0148&location=en.Products.Automotive_ICs.Automotive_MOSFETs.Single__N-Channel_250V_MOSFETs.DATASHEET.IPD5N25S3-430_DS_10.pdf; ComponentLink3Description: Package Specification; ComponentLink3URL: http://www.infineon.com/dgdl/PG-TO252-3-313-Package_Overview.pdf?folderId=db3a30432b57a660012b81890ade72d2&fileId=db3a30432b57a660012b8193af2872eb
footprint INF-PG-TO252-3-313_N (DPAK, 3-Leads, Body 6.5x6.12mm, Pitch 2.28mm, IPC Medium Density)
footprint INF-PG-TO252-3-313_L (DPAK, 3-Leads, Body 6.5x6.12mm, Pitch 2.28mm, IPC High Density)
footprint INF-PG-TO252-3-313_M (DPAK, 3-Leads, Body 6.5x6.12mm, Pitch 2.28mm, IPC Low Density)
pins: 1 GATE, 2 DRAIN, 3 SOURCE

## IPD12CN10N G
designator Q?
N-Channel OptiMOS 2 Power-Transistor, 100 V VDS, 67 A ID, -55 to 175 degC, PG-TO252-3-11, Reel, Green; Manufacturer: Infineon; PartNumber: IPD12CN10N G; Green: TRUE; ID (max): 67 A; IDpuls (max): 268 A; Polarity: N; Ptot (max): 100 W; QG: 49 nC; RDS (on) (max): 12.4 mOhm; Rth: 1.2 K/W; RthJA (max): 62 K/W; VDS (max): 100 V; VGS(th) (max): 4 V; VGS(th) (min): 2 V; DatasheetVersion: Rev. 1.07; PackageVersion: Rev. 02, 03/2007; PackageReference: PG-TO252-3-11; PackageDescription: 3-Pin Plastic (Green) Transistor Single Outline Package, 6.57 x 6.1 mm Body, 2.29 mm Pitch; Supplier 1: Mouser; Supplier Part Number 1: 726-IPD12CN10NG; Supplier 2: Digi-Key; Supplier Part Number 2: IPD12CN10N G-ND; Packing: Reel; RthJC (max): 1.2 K/W; Mounting Technology: Surface Mount; ComponentLink1Description: Manufacturer URL; ComponentLink1URL: http://www.infineon.com/; ComponentLink2Description: Datasheet; ComponentLink2URL: http://www.infineon.com/dgdl/IPP12CN10N_Rev17.pdf?folderId=db3a304412b407950112b408e8c90004&fileId=db3a304412b407950112b42c236e467c; ComponentLink3Description: Package Specification; ComponentLink3URL: http://www.infineon.com/dgdl/IPD160N04L_rev1.0.pdf?folderId=db3a3043163797a6011643468e7505a4&fileId=db3a3043163797a60116436401cf05cf
footprint INF-PG-TO252-3-11_A_N (DPAK, 3-Leads, Body 6.57x6.1mm, Pitch 2.29mm, IPC Medium Density)
footprint INF-PG-TO252-3-11_A_L (DPAK, 3-Leads, Body 6.57x6.1mm, Pitch 2.29mm, IPC High Density)
footprint INF-PG-TO252-3-11_A_M (DPAK, 3-Leads, Body 6.57x6.1mm, Pitch 2.29mm, IPC Low Density)
pins: 1 GATE, 2 DRAIN, 3 SOURCE

## IPD14N06S2-80
designator Q?
OptiMOS Power-Transistor, 55 V VDS, 17 A ID, PG-TO252-3-11, Reel, Green; Manufacturer: Infineon; PartNumber: IPD14N06S2-80; Green: TRUE; ID (max): 17 A; IDpuls (max): 68 A; Ptot (max): 47 W; QG: 8 nC; RDS (on) (max) (@10V): 80 mOhm; RthJC (max): 3.2 K/W; VDS (max): 55 V; VGS(th) (max): 4 V; VGS(th) (min): 2.1 V; DatasheetVersion: Rev. 1.0; PackageVersion: Dec-06; PackageReference: PG-TO252-3-11; PackageDescription: 3-Pin Plastic (Green) Transistor Single Outline Package, 6.5 x 6.12 mm Body, 2.28 mm Pitch; Supplier 1: Mouser; Supplier Part Number 1: 726-IPD14N06S2-80; Supplier 2: Digi-Key; Supplier Part Number 2: IPD14N06S2-80-ND; Halogen-free: TRUE; Packing: Reel; Technology: OptiMOS; Mounting Technology: Surface Mount; ComponentLink1Description: Manufacturer URL; ComponentLink1URL: http://www.infineon.com/; ComponentLink2Description: Datasheet; ComponentLink2URL: http://www.infineon.com/dgdl/IPD14N06S2-80_green.pdf?folderId=db3a304412b407950112b4322c6d574b&fileId=db3a304412b407950112b43349c95af6&location=en.Products.Automotive_ICs.Automotive_MOSFETs.Single__N-Channel_55V_MOSFETs.DATASHEET.IPD14N06S2-80_green.pdf; ComponentLink3Description: Package Specification; ComponentLink3URL: http://www.infineon.com/dgdl/BTS142_DS_13.pdf?folderId=db3a3043163797a6011667aa084c0e01&fileId=db3a3043163797a6011667ac98be0e02&location=en.Products.Automotive_ICs.Smart_High-_and_Low-Side_Switches.HITFET___TEMPFET__-_Smart_Low-Side_Switches.DATASHEET.BTS142_DS_13.pdf
footprint INF-PG-TO252-3-11_N (DPAK, 3-Leads, Body 6.5x6.12mm, Pitch 2.28mm, IPC Medium Density)
footprint INF-PG-TO252-3-11_L (DPAK, 3-Leads, Body 6.5x6.12mm, Pitch 2.28mm, IPC High Density)
footprint INF-PG-TO252-3-11_M (DPAK, 3-Leads, Body 6.5x6.12mm, Pitch 2.28mm, IPC Low Density)
pins: 1 GATE, 2 DRAIN, 3 SOURCE

## IPD15N06S2L-64
designator Q?
OptiMOS Power-Transistor, 55 V VDS, 19 A ID, PG-TO252-3-11, Reel, Green; Manufacturer: Infineon; PartNumber: IPD15N06S2L-64; Green: TRUE; ID (max): 19 A; IDpuls (max): 76 A; Ptot (max): 47 W; QG: 11 nC; RDS (on) (max) (@10V): 64 mOhm; RDS (on) (max) (@4.5V): 85.0 mOhm; RthJC (max): 3.2 K/W; VDS (max): 55 V; VGS(th) (max): 2 V; VGS(th) (min): 1.2 V; DatasheetVersion: Rev. 1.0; PackageVersion: Dec-06; PackageReference: PG-TO252-3-11; PackageDescription: 3-Pin Plastic (Green) Transistor Single Outline Package, 6.5 x 6.12 mm Body, 2.28 mm Pitch; Supplier 1: Mouser; Supplier Part Number 1: 726-IPD15N06S2L-64; Supplier 2: Digi-Key; Supplier Part Number 2: IPD15N06S2L-64-ND; Halogen-free: TRUE; Packing: Reel; Technology: OptiMOS; Mounting Technology: Surface Mount; ComponentLink1Description: Manufacturer URL; ComponentLink1URL: http://www.infineon.com/; ComponentLink2Description: Datasheet; ComponentLink2URL: http://www.infineon.com/dgdl/IPD15N06S2L-64_green.pdf?folderId=db3a304412b407950112b4322c6d574b&fileId=db3a304412b407950112b4334ab35afe&location=en.Products.Automotive_ICs.Automotive_MOSFETs.Single__N-Channel_55V_MOSFETs.DATASHEET.IPD15N06S2L-64_green.pdf; ComponentLink3Description: Package Specification; ComponentLink3URL: http://www.infineon.com/dgdl/BTS142_DS_13.pdf?folderId=db3a3043163797a6011667aa084c0e01&fileId=db3a3043163797a6011667ac98be0e02&location=en.Products.Automotive_ICs.Smart_High-_and_Low-Side_Switches.HITFET___TEMPFET__-_Smart_Low-Side_Switches.DATASHEET.BTS142_DS_13.pdf
footprint INF-PG-TO252-3-11_N (DPAK, 3-Leads, Body 6.5x6.12mm, Pitch 2.28mm, IPC Medium Density)
footprint INF-PG-TO252-3-11_L (DPAK, 3-Leads, Body 6.5x6.12mm, Pitch 2.28mm, IPC High Density)
footprint INF-PG-TO252-3-11_M (DPAK, 3-Leads, Body 6.5x6.12mm, Pitch 2.28mm, IPC Low Density)
pins: 1 GATE, 2 DRAIN, 3 SOURCE

## IPD22N08S2L-50
designator Q?
OptiMOS Power-Transistor, 75 V VDS, 25 A ID, PG-TO252-3-11, Reel, Green; Manufacturer: Infineon; PartNumber: IPD22N08S2L-50; Green: TRUE; ID (max): 25 A; IDpuls (max): 108 A; Ptot (max): 75 W; QG: 21 nC; RDS (on) (max) (@10V): 50 mOhm; RthJC (max): 2 K/W; VDS (max): 75 V; VGS(th) (max): 2 V; VGS(th) (min): 1.2 V; DatasheetVersion: Rev. 1.0; PackageVersion: Dec-06; PackageReference: PG-TO252-3-11; PackageDescription: 3-Pin Plastic (Green) Transistor Single Outline Package, 6.5 x 6.12 mm Body, 2.28 mm Pitch; Supplier 1: Mouser; Supplier Part Number 1: 726-IPD22N08S2L-50; Supplier 2: Digi-Key; Supplier Part Number 2: IPD22N08S2L-50-ND; Halogen-free: TRUE; Packing: Reel; Technology: OptiMOS; Mounting Technology: Surface Mount; ComponentLink1Description: Manufacturer URL; ComponentLink1URL: http://www.infineon.com/; ComponentLink2Description: Datasheet; ComponentLink2URL: http://www.infineon.com/dgdl/IPD22N08S2L-50_green.pdf?folderId=db3a304412b407950112b426dbff3ada&fileId=db3a304412b407950112b426ee5f3b08&location=en.Products.Automotive_ICs.Automotive_MOSFETs.Single__N-Channel_75V_MOSFETs.DATASHEET.IPD22N08S2L-50_green.pdf; ComponentLink3Description: Package Specification; ComponentLink3URL: http://www.infineon.com/dgdl/BTS142_DS_13.pdf?folderId=db3a3043163797a6011667aa084c0e01&fileId=db3a3043163797a6011667ac98be0e02&location=en.Products.Automotive_ICs.Smart_High-_and_Low-Side_Switches.HITFET___TEMPFET__-_Smart_Low-Side_Switches.DATASHEET.BTS142_DS_13.pdf
footprint INF-PG-TO252-3-11_N (DPAK, 3-Leads, Body 6.5x6.12mm, Pitch 2.28mm, IPC Medium Density)
footprint INF-PG-TO252-3-11_L (DPAK, 3-Leads, Body 6.5x6.12mm, Pitch 2.28mm, IPC High Density)
footprint INF-PG-TO252-3-11_M (DPAK, 3-Leads, Body 6.5x6.12mm, Pitch 2.28mm, IPC Low Density)
pins: 1 GATE, 2 DRAIN, 3 SOURCE

## IPD25CN10N G
designator Q?
N-Channel OptiMOS 2 Power-Transistor, 100 V VDS, 35 A ID, -55 to 175 degC, PG-TO252-3-11, Reel, Green; Manufacturer: Infineon; PartNumber: IPD25CN10N G; Green: TRUE; ID (max): 35 A; IDpuls (max): 140 A; Polarity: N; Ptot (max): 71 W; QG: 23 nC; RDS (on) (max): 25 mOhm; Rth: 2.1 K/W; RthJA (max): 62 K/W; VDS (max): 100 V; VGS(th) (max): 4 V; VGS(th) (min): 2 V; DatasheetVersion: Rev. 1.08; PackageVersion: Rev. 02, 03/2007; PackageReference: PG-TO252-3-11; PackageDescription: 3-Pin Plastic (Green) Transistor Single Outline Package, 6.57 x 6.1 mm Body, 2.29 mm Pitch; Supplier 1: Mouser; Supplier Part Number 1: 726-IPD25CN10NG; Supplier 2: Newark; Supplier Part Number 2: 47W3470; Supplier 3: Farnell; Supplier Part Number 3: 2212856; Supplier 4: Digi-Key; Supplier Part Number 4: IPD25CN10N GTR-ND; Supplier 5: Digi-Key; Supplier Part Number 5: IPD25CN10N GCT-ND; Supplier 6: Digi-Key; Supplier Part Number 6: IPD25CN10N GDKR-ND; Packing: Reel; RthJC (max): 2.1 K/W; Mounting Technology: Surface Mount; ComponentLink1Description: Manufacturer URL; ComponentLink1URL: http://www.infineon.com/; ComponentLink2Description: Datasheet; ComponentLink2URL: http://www.infineon.com/dgdl/IPP26CN10N_Rev18.pdf?folderId=db3a304412b407950112b408e8c90004&fileId=db3a304412b407950112b42b420244aa; ComponentLink3Description: Package Specification; ComponentLink3URL: http://www.infineon.com/dgdl/IPD160N04L_rev1.0.pdf?folderId=db3a3043163797a6011643468e7505a4&fileId=db3a3043163797a60116436401cf05cf
footprint INF-PG-TO252-3-11_A_N (DPAK, 3-Leads, Body 6.57x6.1mm, Pitch 2.29mm, IPC Medium Density)
footprint INF-PG-TO252-3-11_A_L (DPAK, 3-Leads, Body 6.57x6.1mm, Pitch 2.29mm, IPC High Density)
footprint INF-PG-TO252-3-11_A_M (DPAK, 3-Leads, Body 6.57x6.1mm, Pitch 2.29mm, IPC Low Density)
pins: 1 GATE, 2 DRAIN, 3 SOURCE

## IPD025N06N
designator Q?
N-Channel OptiMOS Power-Transistor, 60 V VDS, 90 A ID, -55 to 175 degC, PG-TO252-3-11, Reel, Green; Manufacturer: Infineon; PartNumber: IPD025N06N; Green: TRUE; ID (max): 90 A; IDpuls (max): 360 A; Polarity: N; Ptot (max): 167 W; QG: 71 nC; RDS (on) (max): 2.5 mOhm; Rth: 0.9 K/W; RthJA (max): 62 K/W; VDS (max): 60 V; VGS(th) (max): 3.3 V; VGS(th) (min): 2.1 V; DatasheetVersion: Rev. 2.3; PackageVersion: Rev. 02, 03/2007; PackageReference: PG-TO252-3-11; PackageDescription: 3-Pin Plastic (Green) Transistor Single Outline Package, 6.57 x 6.1 mm Body, 2.29 mm Pitch; Supplier 1: Digi-Key; Supplier Part Number 1: IPD025N06NTR-ND; Supplier 2: Digi-Key; Supplier Part Number 2: IPD025N06NCT-ND; Supplier 3: Digi-Key; Supplier Part Number 3: IPD025N06NDKR-ND; Halogen-free: TRUE; Packing: Reel; RthJC (max): 0.9 K/W; Mounting Technology: Surface Mount; ComponentLink1Description: Manufacturer URL; ComponentLink1URL: http://www.infineon.com/; ComponentLink2Description: Datasheet; ComponentLink2URL: http://www.infineon.com/dgdl/IPD025N06N_Rev2.3.pdf?folderId=db3a304313b8b5a60113cee8763b02d7&fileId=db3a304336415dec0136531648062c76; ComponentLink3Description: Package Specification; ComponentLink3URL: http://www.infineon.com/dgdl/IPD160N04L_rev1.0.pdf?folderId=db3a3043163797a6011643468e7505a4&fileId=db3a3043163797a60116436401cf05cf
footprint INF-PG-TO252-3-11_A_N (DPAK, 3-Leads, Body 6.57x6.1mm, Pitch 2.29mm, IPC Medium Density)
footprint INF-PG-TO252-3-11_A_L (DPAK, 3-Leads, Body 6.57x6.1mm, Pitch 2.29mm, IPC High Density)
footprint INF-PG-TO252-3-11_A_M (DPAK, 3-Leads, Body 6.57x6.1mm, Pitch 2.29mm, IPC Low Density)
pins: 1 GATE, 2 DRAIN, 3 SOURCE